# Altium schematic symbol library Pod3.SchLib: 26 symbols
Pins are listed as number, name and electrical type; pins without a type are passive.

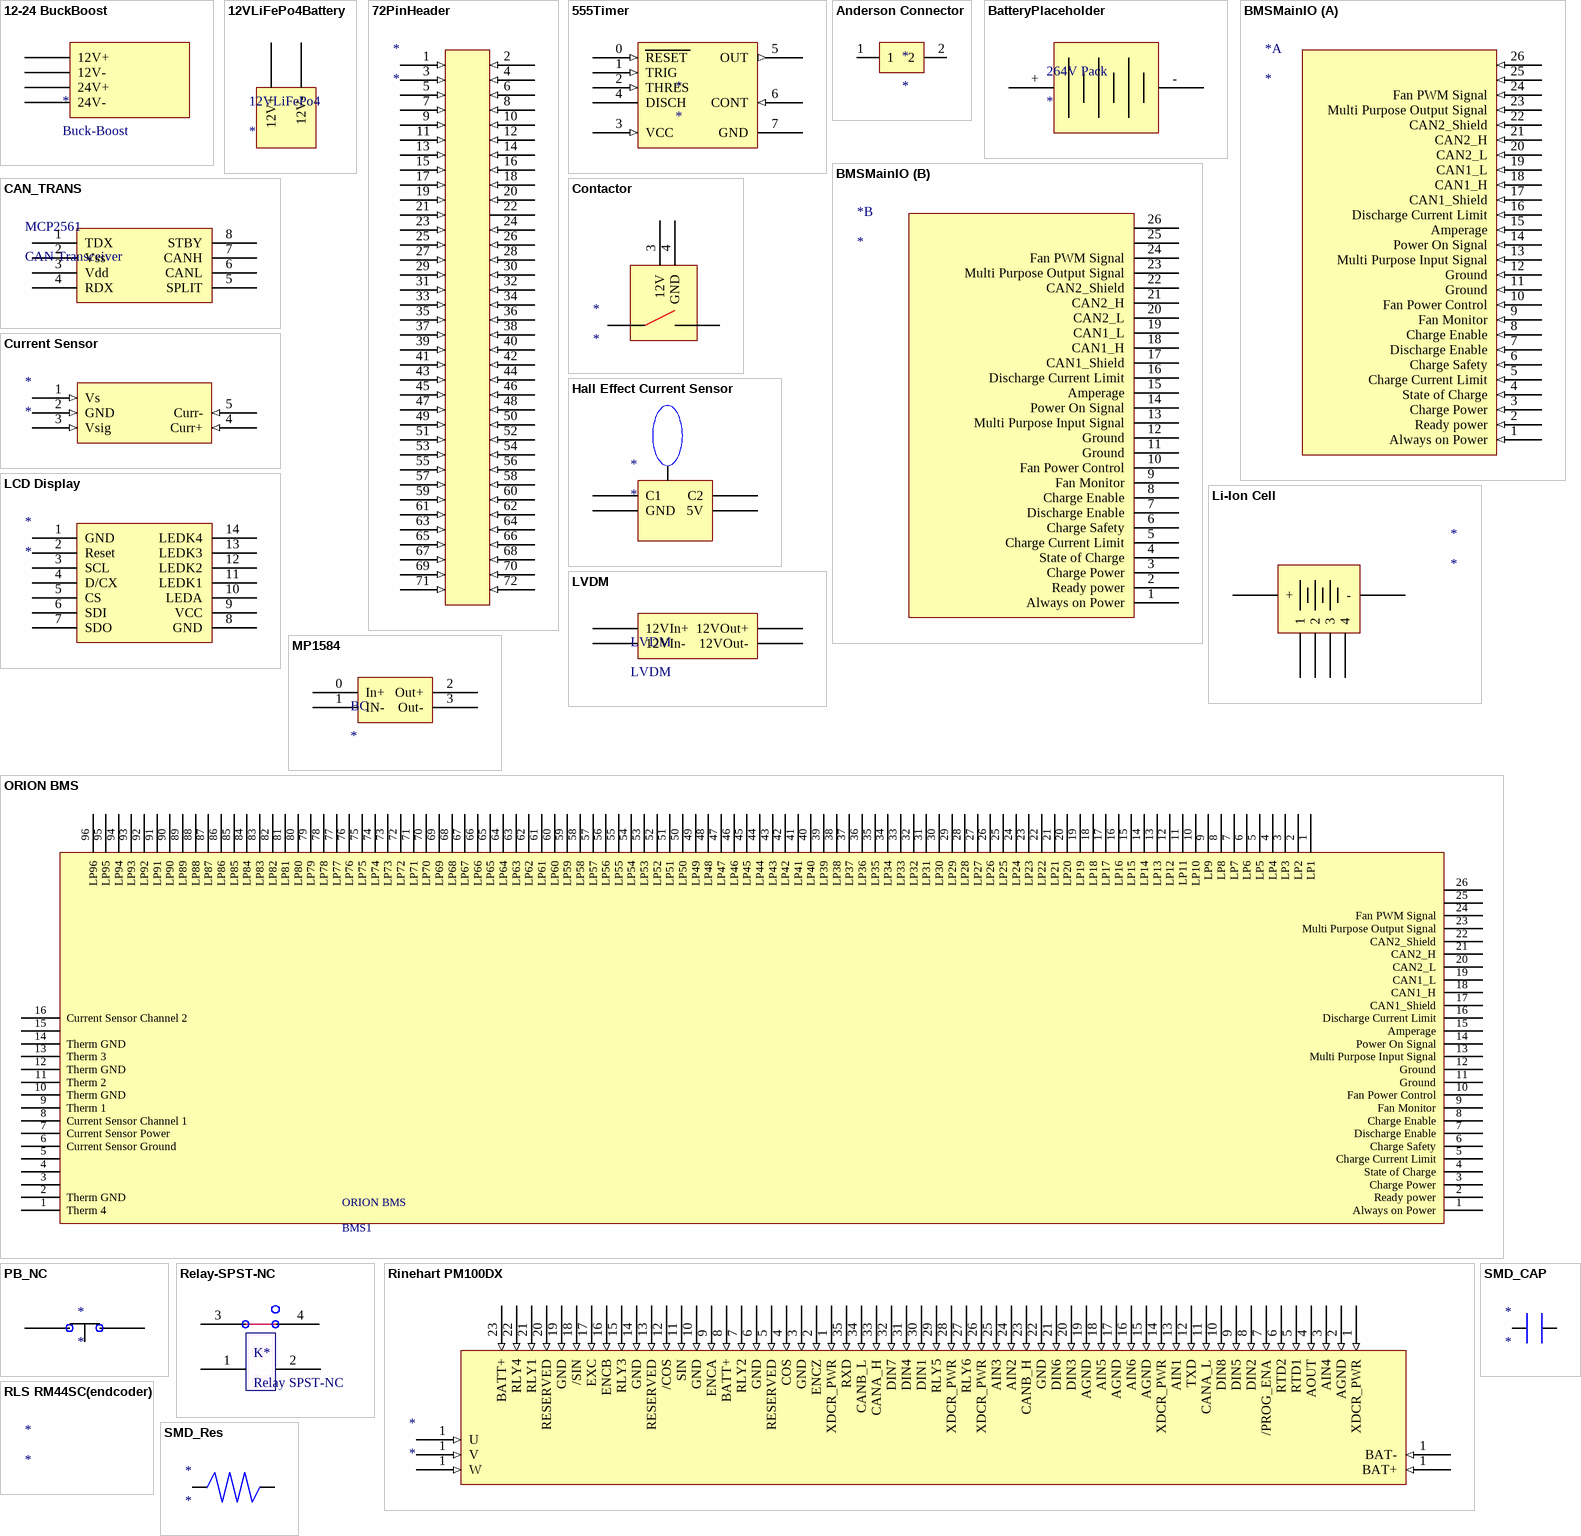
[diagram p0: symbols 12-24 BuckBoost to SMD_Res]

## 12-24 BuckBoost
designator *, comment Buck-Boost
pins: 13 24V-, 14 24V+, 15 12V-, 16 12V+

## 12VLiFePo4Battery
designator 12VLiFePo4
pins: 1 12V+, 2 12V-

## 72PinHeader
designator *
pins: 1 (in), 2 (in), 3 (in), 4 (in), 5 (in), 6 (in), 7 (in), 8 (in), 9 (in), 10 (in), 11 (in), 12 (in), 13 (in), 14 (in), 15 (in), 16 (in), 17 (in), 18 (in), 19 (in), 20 (in), 21 (in), 22, 23 (in), 24 (in), 25 (in), 26 (in), 27 (in), 28 (in), 29 (in), 30 (in), 31 (in), 32 (in), 33 (in), 34 (in), 35 (in), 36 (in), 37 (in), 38 (in), 39 (in), 40 (in), 41 (in), 42 (in), 43 (in), 44 (in), 45 (in), 46 (in), 47 (in), 48 (in), 49 (in), 50 (in), 51 (in), 52 (in), 53 (in), 54 (in), 55 (in), 56 (in), 57 (in), 58 (in), 59 (in), 60 (in), 61 (in), 62 (in), 63 (in), 64 (in), 65 (in), 66 (in), 67 (in), 68 (in), 69 (in), 70 (in), 71 (in), 72 (in)

## 555Timer
designator *
pins: 0 RESET (in), 1 TRIG (in), 2 THRES (in), 3 VCC (in), 4 DISCH, 5 OUT (out), 6 CONT (in), 7 GND

## Anderson Connector
designator *
pins: 1, 2
1 alternate drawing of the same symbol

## BatteryPlaceholder
designator 264V Pack
pins: +, -

## BMSMainIO
designator *
part A pins: 1 Always on Power (in), 2 Ready power (in), 3 Charge Power (in), 4 State of Charge (in), 5 Charge Current Limit (in), 6 Charge Safety (in), 7 Discharge Enable (in), 8 Charge Enable (in), 9 Fan Monitor (in), 10 Fan Power Control (in), 11 Ground (in), 12 Ground (in), 13 Multi Purpose Input Signal (in), 14 Power On Signal (in), 15 Amperage (in), 16 Discharge Current Limit (in), 17 CAN1_Shield (in), 18 CAN1_H (in), 19 CAN1_L (in), 20 CAN2_L (in), 21 CAN2_H (in), 22 CAN2_Shield (in), 23 Multi Purpose Output Signal (in), 24 Fan PWM Signal (in), 25 (in), 26 (in)
part B pins: 1 Always on Power, 2 Ready power, 3 Charge Power, 4 State of Charge, 5 Charge Current Limit, 6 Charge Safety, 7 Discharge Enable, 8 Charge Enable, 9 Fan Monitor, 10 Fan Power Control, 11 Ground, 12 Ground, 13 Multi Purpose Input Signal, 14 Power On Signal, 15 Amperage, 16 Discharge Current Limit, 17 CAN1_Shield, 18 CAN1_H, 19 CAN1_L, 20 CAN2_L, 21 CAN2_H, 22 CAN2_Shield, 23 Multi Purpose Output Signal, 24 Fan PWM Signal, 25, 26

## CAN_TRANS
designator MCP2561, comment CAN Transceiver
ComponentLink1Description: MCP2557FD; ComponentLink1URL: https://www.mouser.com/productdetail/microchip-technology/mcp2557fd-h-sn?qs=sGAEpiMZZMsGqoCZrYwANkLWU4Se4IrDu%2FrtAtMTObg%3D
pins: 1 TDX, 2 Vss, 3 Vdd, 4 RDX, 5 SPLIT, 6 CANL, 7 CANH, 8 STBY

## Contactor
designator *
pins: 1 +, 2 -, 3 12V, 4 GND

## Current Sensor
designator *
pins: 1 Vs (in), 2 GND (in), 3 Vsig (in), 4 Curr+ (in), 5 Curr- (in)

## Hall Effect Current Sensor
designator *
pins: 1 C1, 2 GND, 3 5V, 4 C2

## LCD Display
designator *
footprint LCD Display Header
pins: 1 GND "Power Ground", 2 Reset "Reset Signal", 3 SCL "Serieal interface clock in 54 wire 8 bit serial data interface", 4 D/CX "command or paramer select in 4 wire 8 bit serial data interface", 5 CS "chip select signal", 6 SDI "serial input signal", 7 SDO "serial output signal", 8 GND "Power ground", 9 VCC "power supply or analog/logic circuit", 10 LEDA "led anode", 11 LEDK1 "led cathode", 12 LEDK2 "led cathode", 13 LEDK3 "led cathode", 14 LEDK4 "led cathode"

## Li-Ion Cell
designator *
pins: 1, 2, 3, 4, 5 +, 6 -

## LVDM
designator LVDM
pins: 9 12VIn+, 10 12VIn-, 11 12VOut+, 12 12VOut-

## MP1584
designator BC
pins: 0 In+, 1 IN-, 2 Out+, 3 Out-

## ORION BMS
designator ORION BMS, comment BMS1
pins: 1 Therm 4, 1 Always on Power, 1 LP1, 2 Therm GND, 2 Ready power, 2 LP2, 3, 3 Charge Power, 3 LP3, 4, 4 State of Charge, 4 LP4, 5, 5 Charge Current Limit, 5 LP5, 6 Current Sensor Ground, 6 Charge Safety, 6 LP6, 7 Current Sensor Power, 7 Discharge Enable, 7 LP7, 8 Current Sensor Channel 1, 8 Charge Enable, 8 LP8, 9 Therm 1, 9 Fan Monitor, 9 LP9, 10 Therm GND, 10 Fan Power Control, 10 LP10, 11 Therm 2, 11 Ground, 11 LP11, 12 Therm GND, 12 Ground, 12 LP12, 13 Therm 3, 13 Multi Purpose Input Signal, 13 LP13, 14 Therm GND, 14 Power On Signal, 14 LP14, 15, 15 Amperage, 15 LP15, 16 Current Sensor Channel 2, 16 Discharge Current Limit, 16 LP16, 17 CAN1_Shield, 17 LP17, 18 CAN1_H, 18 LP18, 19 CAN1_L, 19 LP19, 20 CAN2_L, 20 LP20, 21 CAN2_H, 21 LP21, 22 CAN2_Shield, 22 LP22, 23 Multi Purpose Output Signal, 23 LP23, 24 Fan PWM Signal, 24 LP24, 25, 25 LP25, 26, 26 LP26, 27 LP27, 28 LP28, 29 LP29, 30 LP30, 31 LP31, 32 LP32, 33 LP33, 34 LP34, 35 LP35, 36 LP36, 37 LP37, 38 LP38, 39 LP39, 40 LP40, 41 LP41, 42 LP42, 43 LP43, 44 LP44, 45 LP45, 46 LP46, 47 LP47, 48 LP48, 49 LP49, 50 LP50, 51 LP51, 52 LP52, 53 LP53, 54 LP54, 55 LP55, 56 LP56, 57 LP57, 58 LP58, 59 LP59, 60 LP60, 61 LP61, 62 LP62, 63 LP63, 64 LP64, 65 LP65, 66 LP66, 67 LP67, 68 LP68, 69 LP69, 70 LP70, 71 LP71, 72 LP72, 73 LP73, 74 LP74, 75 LP75, 76 LP76, 77 LP77, 78 LP78, 79 LP79, 80 LP80, 81 LP81, 82 LP82, 83 LP83, 84 LP84, 85 LP85, 86 LP86, 87 LP87, 88 LP88, 89 LP89, 90 LP90, 91 LP91, 92 LP92, 93 LP93, 94 LP94, 95 LP95, 96 LP96

## PB_NC
designator *
pins: 1, 2

## Relay-SPST-NC
designator K*, comment Relay SPST-NC
pins: 1, 2, 3, 4

## Rinehart PM100DX
designator *
pins: 1 XDCR_PWR (in) "5V @ 80mA max", 1 XDCR_PWR (in) "5V@80mA max Encoder Power", 1 U (in) "Three phase output U", 1 V (in) "Three phase output V", 1 W (in) "Three phase output W", 1 BAT+ (in) "Hight voltage battery +", 1 BAT- (in) "Hight voltage battery -", 2 AGND (in) "Analog Ground,Accel Pedal GND", 2 ENCZ (in) "encoder channel z input(index)", 3 AIN4 (in) "Analog  Input 4 0-5Vfs", 3 GND (in) "Resolver excitation return", 4 AOUT (in) "Analog Output 0-5V", 4 COS (in) "Resolver Cosine Winding+", 5 RTD1 (in) "RTD Input(PT 100 or PT 1000)", 5 RESERVED (in) "do not connect", 6 RTD2 (in) "RTD Input(PT 100 or PT 1000)", 6 GND (in) "Main 12V return, Chassis GND", 7 /PROG_ENA (in) "Serial Boot Loader enable", 7 RLY2 (in) "Hi-Side Relay Driver,Main Relay Drive", 8 DIN2 (in) "Digital iNPUT 2-stg, Reverse Enable Switch", 8 BATT+ (in) "main 12V power source, 12V ignition power input", 9 DIN5 (in) "Digital Input 5 - STB, Ignition Input(if used)", 9 ENCA (in) "Encoder Channel A Input, used with induction motors", 10 DIN8 (in) "Digital input 8 - STB, available fore user-defined function", 10 GND (in) "gnd,encoder gnd", 11 CANA_L (in) "CAN Channel A Low", 11 SIN (in) "resolver sine winding +", 12 TXD (in) "RS-232 Transmit", 12 /COS (in) "Resolver Cosine Winding -", 13 AIN1 (in) "Analog Input 1 0-5 Vfs, Accel Pedal Wiper", 13 RESERVED (in) "do not connect", 14 XDCR_PWR (in) "5V@80mA max,Spare 5V transducer power", 14 GND (in) "Main 12V return, Chassis GND", 15 AGND (in) "Analog Ground", 15 RLY3 (in) "Lo-Side Relay Driver, OK Indicator Drive/12V Power Relay Drive", 16 AIN6 (in) "Analog Input 6 0-5Vfs,Available for user defined function", 16 ENCB (in) "encoder channel B input", 17 AGND (in) "Analog Ground", 17 EXC (in) "resolver excitation output,used with PM Motors", 18 AIN5 (in) "Analog Input 5 0-5Vfs,Available for user-defined functinality.", 18 /SIN (in) "resolver sine winding -", 19 AGND (in) "Analog Ground", 19 GND (in) "Resolver Shild GND", 20 DIN3 (in) "Digital Input 3 - STG, Brake Switch", 20 RESERVED (in) "do not connect", 21 DIN6 (in) "Digital Input 6 - STG, Start Input(if used)", 21 RLY1 (in) "Hi-Side Relay Driver,Pre-Charge Contactor Drive", 22 GND (in) "gnd", 22 RLY4 (in) "Lo-Side Relay Driver,Fault Indictor Drive", 23 CANB_H (in) "CAN Channel b Hi", 23 BATT+ (in) "Main 12V power source, 12V ignition power input", 24 AIN2 (in) "Analog Input 2 0-5Vfs, Motor Temperature Sensor", 25 AIN3 (in) "Analog Input 3 0-5Vfs,Brake pedal", 26 XDCR_PWR (in) "5V@80mA max", 27 RLY6 (in) "Hi-Side Relay Driver, Available for user-defined functionality, CAN control.", 28 XDCR_PWR (in) "5V@80mA max,Spare 5V transducer power", 29 RLY5 (in) "Hi-Side Relay Driver, Available for user-defined functionality, CAN control.", 30 DIN1 (in) "Digital Input 1-STG,forward enable switch", 31 DIN4 (in) "Digital Input 4 - STG, REGEN Disable Input", 32 DIN7 (in) "Digital Input 7 - STB, available fore user-defined function", 33 CANA_H (in) "CAN Channel A Hi", 34 CANB_L (in) "CAN Channel B Low", 35 RXD (in) "RS-232 Receive"

## RLS RM44SC(endcoder)
designator *

## SMD_CAP
designator *
footprint SMD Capacitor
pins: 2, 3

## SMD_Res
designator *
footprint SMD Resistor
pins: 0, 1

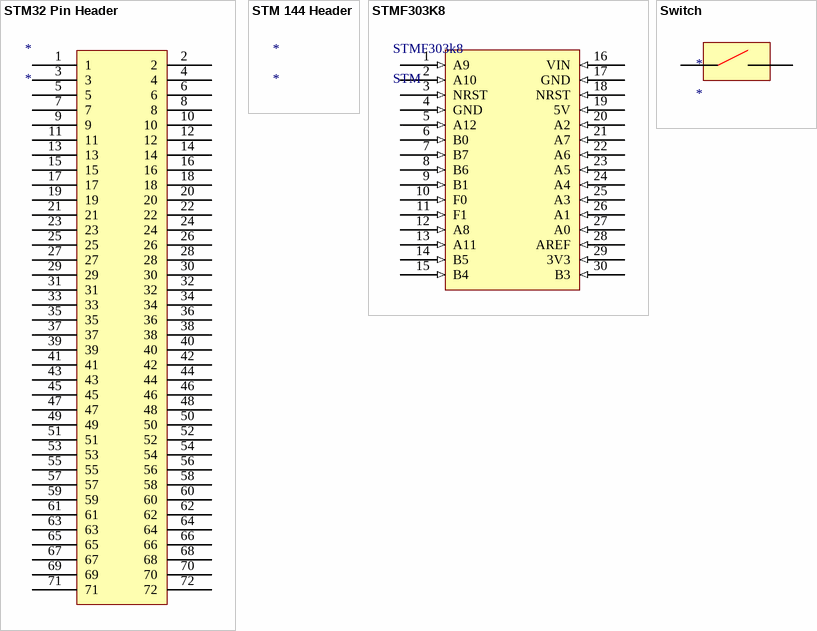
[diagram p1: symbols STM32 Pin Header to Switch]

## STM32 Pin Header
designator *
pins: 1, 2, 3, 4, 5, 6, 7, 8, 9, 10, 11, 12, 13, 14, 15, 16, 17, 18, 19, 20, 21, 22, 23, 24, 25, 26, 27, 28, 29, 30, 31, 32, 33, 34, 35, 36, 37, 38, 39, 40, 41, 42, 43, 44, 45, 46, 47, 48, 49, 50, 51, 52, 53, 54, 55, 56, 57, 58, 59, 60, 61, 62, 63, 64, 65, 66, 67, 68, 69, 70, 71, 72

## STM 144 Header
designator *

## STMF303K8
designator STMF303k8, comment STM
pins: 1 A9 (in), 2 A10 (in), 3 NRST (in), 4 GND (in), 5 A12 (in), 6 B0 (in), 7 B7 (in), 8 B6 (in), 9 B1 (in), 10 F0 (in), 11 F1 (in), 12 A8 (in), 13 A11 (in), 14 B5 (in), 15 B4 (in), 16 VIN (in), 17 GND (in), 18 NRST (in), 19 5V (in), 20 A2 (in), 21 A7 (in), 22 A6 (in), 23 A5 (in), 24 A4 (in), 25 A3 (in), 26 A1 (in), 27 A0 (in), 28 AREF (in), 29 3V3 (in), 30 B3 (in)

## Switch
designator *
pins: 1 +, 2 -